# Altium schematic symbol library Trimmer Pot.SchLib: 1 symbol
Pins are listed as number, name and electrical type; pins without a type are passive.

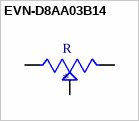
[diagram p0: symbol EVN-D8AA03B14]

## EVN-D8AA03B14
designator R
10 kOhms 0.1W, 1/10W PC Pins Through Hole Trimmer Potentiometer Carbon 1 Turn Top Adjustment; MP: EVN-D8AA03B14; MF: Panasonic Electronic; Price: None; Package: PQFP-44 Panasonic; Value: *; Availability: Unavailable; SnapEDA_Link: https://www.snapeda.com/parts/EVN-D8AA03B14/Panasonic%20Electronic%20Components/view-part/1534925/?ref=snap
footprint TRIM_EVN-D8AA03B14
pins: 1, 2, 3